# Altium integrated library Analog Devices Data Converters Analog-to-Digital Converters.IntLib: 2404 symbols (part 87 of 346)
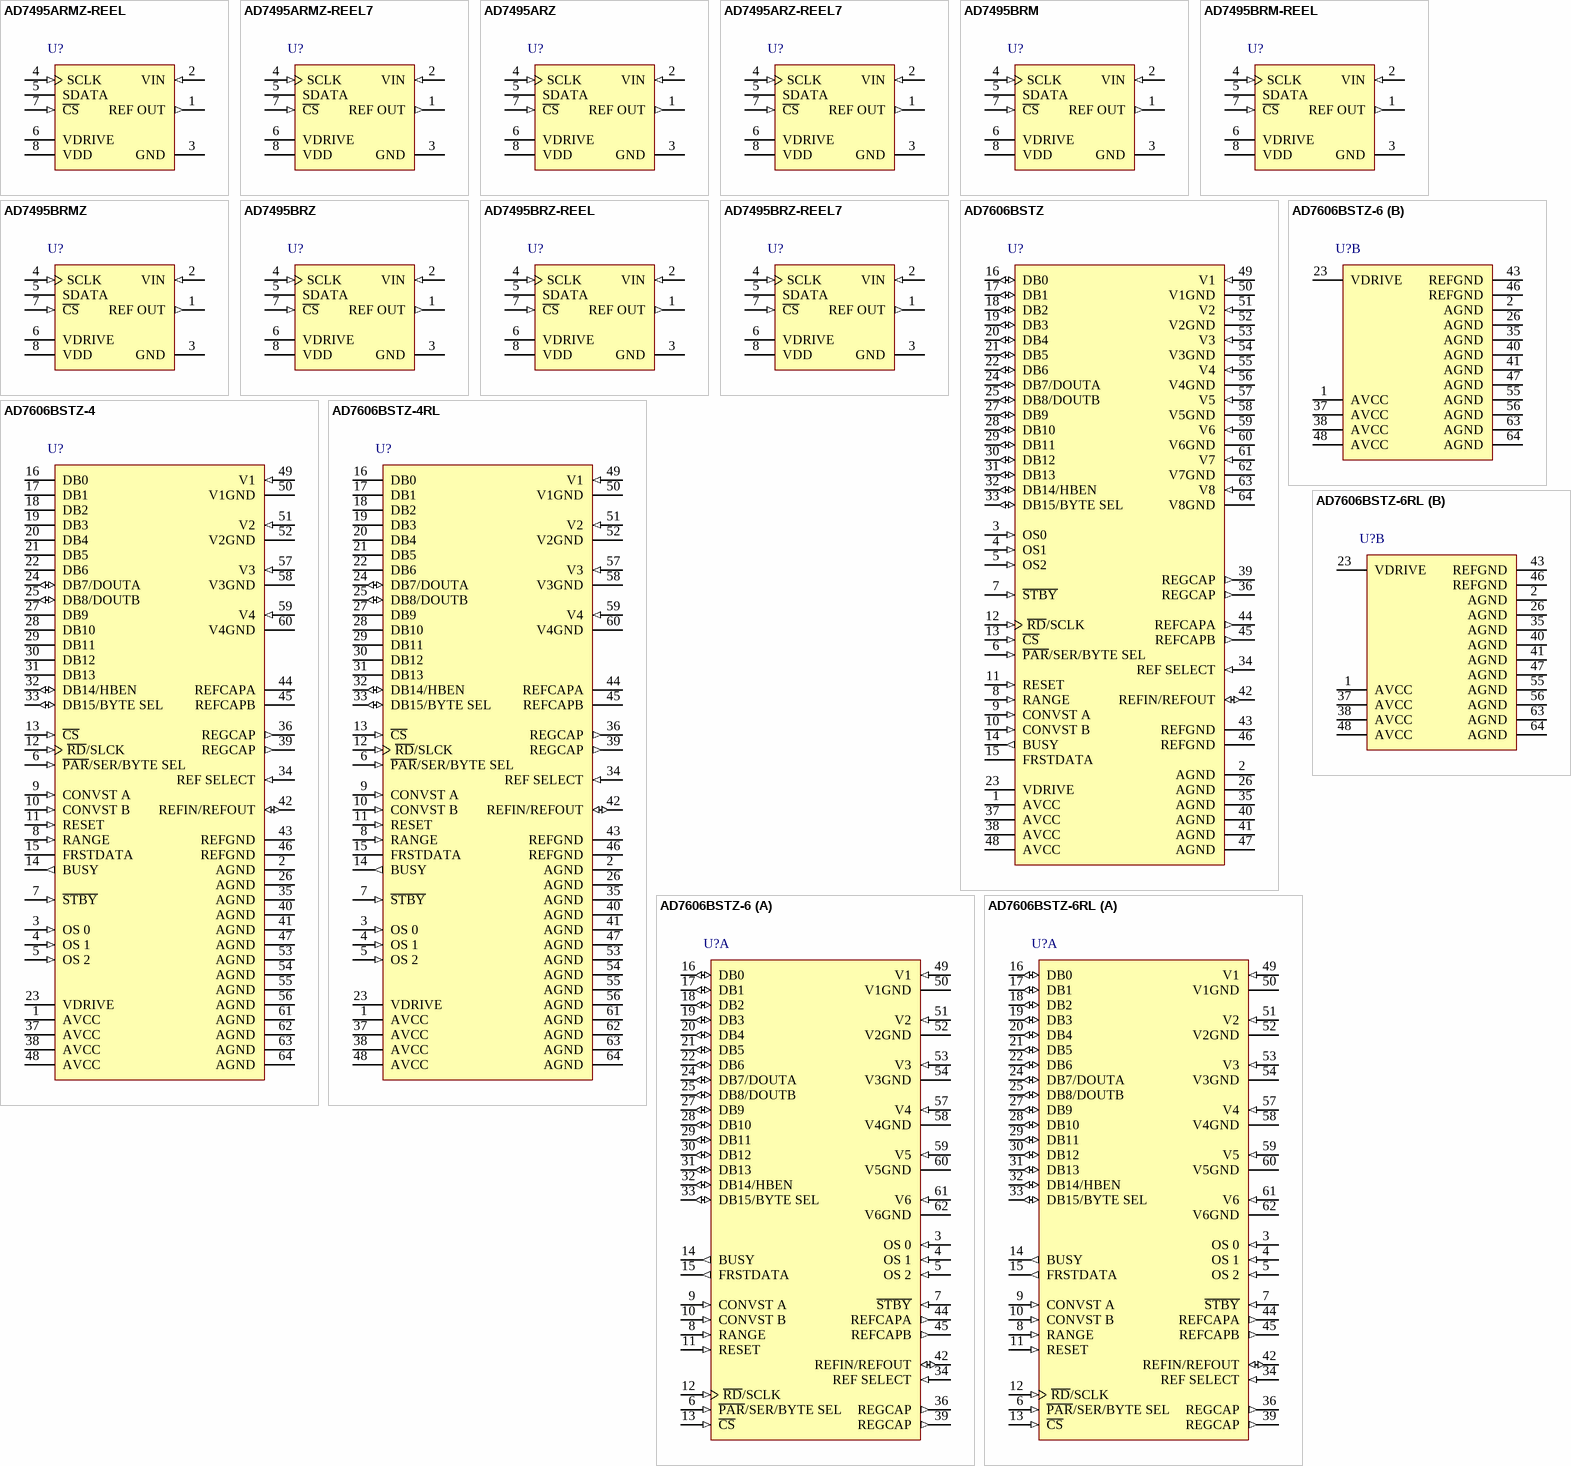
[diagram p301: symbols AD7495ARMZ-REEL to AD7606BSTZ-6RL]

## AD7606BSTZ-4RL
designator U?
Quad Data Acquisition System with 16-Bit, Bipolar Input, Simultaneous Sampling Analog-to-Digital Converter with Parallel, Serial and SPI Interface, 200KSPS, -40 to +85 degC, ST-64-2, Pb-Free, Reel; Generic Part Number: AD7606-4; Manufacturer: Analog Devices; PartNumber: AD7606BSTZ-4RL; Resolution (Bits): 16; Channels: 4; Throughput Rate (SPS): 200K; Interface: Par, Ser, SPI; DatasheetVersion: Rev.C; PackageVersion: 051706-A; PackageReference: ST-64-2; PackageDescription: 64-Lead Low Profile Quad Flat Package [LQFP]; Supplier 1: Digi-Key; Supplier Part Number 1: AD7606BSTZ-4RLTR-ND; Supplier 2: Digi-Key; Supplier Part Number 2: AD7606BSTZ-4RLCT-ND; Supplier 3: Digi-Key; Supplier Part Number 3: AD7606BSTZ-4RLDKR-ND; Supplier 4: Mouser; Supplier Part Number 4: 584-AD7606BSTZ-4R; RoHS: Y; Packing: Reel; Mounting Technology: Surface Mount; Code_JEDEC: MS-026-BCD; ComponentLink1Description: Manufacturer URL; ComponentLink1URL: http://www.analog.com/en/index.html; ComponentLink2Description: Datasheet; ComponentLink2URL: http://www.analog.com/static/imported-files/data_sheets/AD7606_7606-6_7606-4.pdf; ComponentLink3Description: Package Specification; ComponentLink3URL: http://www.analog.com/static/imported-files/packages/PKG_PDF/LQFP%28ST%29/ST_64_2.pdf; ComponentLink4Description: Product URL; ComponentLink4URL: http://www.analog.com/en/analog-to-digital-converters/ad-converters/ad7606-4/products/product.html
footprint ST-64-2_N (Thin QFP, 64-Leads, Body 10x10mm, Pitch 0.5mm, IPC Medium Density)
footprint ST-64-2_L (Thin QFP, 64-Leads, Body 10x10mm, Pitch 0.5mm, IPC High Density)
footprint ST-64-2_M (Thin QFP, 64-Leads, Body 10x10mm, Pitch 0.5mm, IPC Low Density)
pins: 1 AVCC (power) "Analog Supply Voltage, 4.75 V to 5.25 V. This supply voltage is applied to the internal front-end amplifiers and to the ADC core. These supply pins should be decoupled to AGND.", 2 AGND (power) "Analog Ground. These pins are the ground reference points for all analog circuitry on the AD7606. All analog input signals and external reference signals should be referred to these pins. All six of these AGND pins should (See Datasheet)", 3 OS 0 (in) "Oversampling Mode Pins. Logic inputs. These inputs are used to select the oversampling ratio. OS 2 is the MSB control bit, and OS 0 is the LSB control bit. See the Digital Filter section for more details about the (See Datasheet)", 4 OS 1 (in) "Oversampling Mode Pins. Logic inputs. These inputs are used to select the oversampling ratio. OS 2 is the MSB control bit, and OS 0 is the LSB control bit. See the Digital Filter section for more details about the (See Datasheet)", 5 OS 2 (in) "Oversampling Mode Pins. Logic inputs. These inputs are used to select the oversampling ratio. OS 2 is the MSB control bit, and OS 0 is the LSB control bit. See the Digital Filter section for more details about the (See Datasheet)", 6 ~{PAR}/SER/BYTE SEL (in) "Parallel/Serial/Byte Interface Selection Input. Logic input. If this pin is tied to a logic low, the parallel interface is selected. If this pin is tied to a logic high, the serial interface is selected. Parallel byte (See Datasheet)", 7 ~{STBY} (in) "Standby Mode Input. This pin is used to place the AD7606/AD7606-6/ AD7606-4 into one of two power-down modes: standby mode or shutdown mode. The power-down mode entered depends on the state of the RANGE pin, as shown in (See Datasheet)", 8 RANGE (in) "Analog Input Range Selection. Logic input. The polarity on this pin deter-mines the input range of the analog input channels. If this pin is tied to a logic high, the analog input range is +/-10 V for all channels. If this (See Datasheet)", 9 CONVST A (in) "Conversion Start Input A. Logic inputs. These logic inputs are used to initiate conversions on the analog input channels.For simultaneous sampling of all input channels, CONVST A and CONVST B can be shorted together, and a (See Datasheet)", 10 CONVST B (in) "Conversion Start Input B. Logic inputs. These logic inputs are used to initiate conversions on the analog input channels.For simultaneous sampling of all input channels, CONVST A and CONVST B can be shorted together, and a (See Datasheet)", 11 RESET (in) "Reset Input. When set to logic high, the rising edge of RESET resets the AD7606/AD7606-6/AD7606-4. The part should receive a RESET pulse after power-up. The RESET high pulse should typically be 50 ns wide. If a RESET pulse (See Datasheet)", 12 ~{RD}/SLCK (in) "Parallel Data Read Control Input When the Parallel Interface Is Selected (R\D\)/ Serial Clock Input When the Serial Interface Is Selected (SCLK). When both C\S\ and R\D\ are logic low in parallel mode, the output bus is (See Datasheet)", 13 ~{CS} (in) "Chip Select. This active low logic input frames the data transfer. When both C\S\ and R\D\ are logic low in parallel mode, the DB[15:0] output bus is enabled and the conversion result is output on the parallel data bus lines.(See Datasheet)", 14 BUSY (out) "Busy Output. This pin transitions to a logic high after both CONVST A and CONVST B rising edges and indicates that the conversion process has started. The BUSY output remains high until the conversion process for all (See Datasheet)", 15 FRSTDATA (hiz) "Digital Output. The FRSTDATA output signal indicates when the first channel, V1, is being read back on the parallel, byte, or serial interface. When the C\S\ input is high, the FRSTDATA output pin is in three-state. The (See Datasheet)", 16 DB0 (hiz) "Parallel Output Data Bits DB0. When P\A\R\/SER/BYTE SEL = 0, this pin acts as three-state parallel digital input/output pin. When C\S\ and R\D\ are low, this pin is used to output  DB0 of the conversion result. When (See Datasheet)", 17 DB1 (hiz) "Parallel Output Data Bits DB1. When P\A\R\/SER/BYTE SEL = 0, this pin acts as three-state parallel digital input/output pin. When C\S\ and R\D\ are low, this pin is used to output  DB1 of the conversion result. When (See Datasheet)", 18 DB2 (hiz) "Parallel Output Data Bits DB2. When P\A\R\/SER/BYTE SEL = 0, this pin acts as three-state parallel digital input/output pin. When C\S\ and R\D\ are low, this pin is used to output  DB2 of the conversion result. When (See Datasheet)", 19 DB3 (hiz) "Parallel Output Data Bits DB3. When P\A\R\/SER/BYTE SEL = 0, this pin acts as three-state parallel digital input/output pin. When C\S\ and R\D\ are low, this pin is used to output  DB3 of the conversion result. When (See Datasheet)", 20 DB4 (hiz) "Parallel Output Data Bits DB4. When P\A\R\/SER/BYTE SEL = 0, this pin acts as three-state parallel digital input/output pin. When C\S\ and R\D\ are low, this pin is used to output  DB4 of the conversion result. When (See Datasheet)", 21 DB5 (hiz) "Parallel Output Data Bits DB5. When P\A\R\/SER/BYTE SEL = 0, this pin acts as three-state parallel digital input/output pin. When C\S\ and R\D\ are low, this pin is used to output  DB5 of the conversion result. When (See Datasheet)", 22 DB6 (hiz) "Parallel Output Data Bits DB6. When P\A\R\/SER/BYTE SEL = 0, this pin acts as three-state parallel digital input/output pin. When C\S\ and R\D\ are low, this pin is used to output  DB6 of the conversion result. When (See Datasheet)", 23 VDRIVE (power) "Logic Power Supply Input. The voltage (2.3 V to 5.25 V) supplied at this pin determines the operating voltage of the interface. This pin is nominally at the same supply as the supply of the host interface (that is, DSP and (See Datasheet)", 24 DB7/DOUTA (io) "Parallel Output Data Bit 7 (DB7)/Serial Interface Data Output Pin (DOUTA). When P\A\R\/SER/BYTE SEL = 0, this pins acts as a three-state parallel digital input/output pin. When C\S\ and R\D\ are low, this pin is used to (See Datasheet)", 25 DB8/DOUTB (io) "Parallel Output Data Bit 8 (DB8)/Serial Interface Data Output Pin (DOUTB).When P\A\R\/SER/BYTE SEL = 0, this pin acts as a three-state parallel digital input/output pin. When C\S\ and R\D\ are low, this pin is used to output (See Datasheet)", 26 AGND (power) "Analog Ground. These pins are the ground reference points for all analog circuitry on the AD7606. All analog input signals and external reference signals should be referred to these pins. All six of these AGND pins should (See Datasheet)", 27 DB9 (hiz) "Parallel Output Data DB9. When P\A\R\/SER/BYTE SEL = 0, this pin acts as three-state parallel digital input/output pin. When C\S\ and R\D\ are low, this pin is used to output DB9 of the conversion result. When (See Datasheet)", 28 DB10 (hiz) "Parallel Output Data DB10. When P\A\R\/SER/BYTE SEL = 0, this pin acts as three-state parallel digital input/output pin. When C\S\ and R\D\ are low, this pin is used to output DB10 of the conversion result. When (See Datasheet)", 29 DB11 (hiz) "Parallel Output Data DB11. When P\A\R\/SER/BYTE SEL = 0, this pin acts as three-state parallel digital input/output pin. When C\S\ and R\D\ are low, this pin is used to output DB11 of the conversion result. When (See Datasheet)", 30 DB12 (hiz) "Parallel Output Data DB12. When P\A\R\/SER/BYTE SEL = 0, this pin acts as three-state parallel digital input/output pin. When C\S\ and R\D\ are low, this pin is used to output DB12 of the conversion result. When (See Datasheet)", 31 DB13 (hiz) "Parallel Output Data DB13. When P\A\R\/SER/BYTE SEL = 0, this pin acts as three-state parallel digital input/output pin. When C\S\ and R\D\ are low, this pin is used to output DB13 of the conversion result. When (See Datasheet)", 32 DB14/HBEN (io) "Parallel Output Data Bit 14 (DB14)/High Byte Enable (HBEN). When P\A\R\/ SER/BYTE SEL = 0, this pin acts as a three-state parallel digital output pin. When C\S\ and R\D\ are low, this pin is used to output DB14 of the (See Datasheet)", 33 DB15/BYTE SEL (io) "Parallel Output Data Bit 15 (DB15)/Parallel Byte Mode Select (BYTE SEL). When P\A\R\/SER/BYTE SEL = 0, this pin acts as a three-state parallel digital output pin. When C\S\ and R\D\ are low, this pin is used to output DB15 (See Datasheet)", 34 REF SELECT (in) "Internal/External Reference Selection Input. Logic input. If this pin is set to logic high, the internal reference is selected and enabled. If this pin is set to logic low, the internal reference is disabled and an external (See Datasheet)", 35 AGND (power) "Analog Ground. These pins are the ground reference points for all analog circuitry on the AD7606. All analog input signals and external reference signals should be referred to these pins. All six of these AGND pins should (See Datasheet)", 36 REGCAP (out) "Decoupling Capacitor Pin for Voltage Output from Internal Regulator.These output pins should be decoupled separately to AGND using a 1 uF capacitor. The voltage on these pins is in the range of 2.5 V to 2.7 V.", 37 AVCC (power) "Analog Supply Voltage, 4.75 V to 5.25 V. This supply voltage is applied to the internal front-end amplifiers and to the ADC core. These supply pins should be decoupled to AGND.", 38 AVCC (power) "Analog Supply Voltage, 4.75 V to 5.25 V. This supply voltage is applied to the internal front-end amplifiers and to the ADC core. These supply pins should be decoupled to AGND.", 39 REGCAP (out) "Decoupling Capacitor Pin for Voltage Output from internal Regulator. These output pins should be decoupled separately to AGND using a 1 uF capacitor. The voltage on these pins is in the range of 2.5V to 2.7 V.", 40 AGND (power) "Analog Ground. These pins are the ground reference points for all analog circuitry on the AD7606. All analog input signals and external reference signals should be referred to these pins. All six of these AGND pins should (See Datasheet)", 41 AGND (power) "Analog Ground. These pins are the ground reference points for all analog circuitry on the AD7606. All analog input signals and external reference signals should be referred to these pins. All six of these AGND pins should (See Datasheet)", 42 REFIN/REFOUT (io) "Reference Input (REFIN)/Reference Output (REFOUT). The on-chip reference of 2.5 V is available on this pin for external use if the REF SELECT pin is set to logic high. Alternatively, the internal reference can be disabled by (See Datasheet)", 43 REFGND (power) "Reference Ground Pins. These pins should be connected to AGND.", 44 REFCAPA "Reference Buffer Output Force/Sense Pins. These pins must be connected together and decoupled to AGND using a low ESR, 10 uF ceramic capacitor. The voltage on these pins is typically 4.5 V.", 45 REFCAPB "Reference Buffer Output Force/Sense Pins. These pins must be connected together and decoupled to AGND using a low ESR, 10 uF ceramic capacitor. The voltage on these pins is typically 4.5 V.", 46 REFGND (power) "Reference Ground Pins. These pins should be connected to AGND.", 47 AGND (power) "Analog Ground. These pins are the ground reference points for all analog circuitry on the AD7606. All analog input signals and external reference signals should be referred to these pins. All six of these AGND pins should (See Datasheet)", 48 AVCC (power) "Analog Supply Voltage, 4.75 V to 5.25 V. This supply voltage is applied to the internal front-end amplifiers and to the ADC core. These supply pins should be decoupled to AGND.", 49 V1 (in) "Analog Input. This pin is a single-ended analog input. The analog input range of this channel is determined by the RANGE pin.", 50 V1GND (power) "Analog Input Ground Pins. These pins correspond to Analog Input Pin V1 and Analog Input Pin V2. All analog input AGND pins should connect to the AGND plane of a system.", 51 V2 (in) "Analog Input. This pin is a single-ended analog input. The analog input range of this channel is determined by the RANGE pin.", 52 V2GND (power) "Analog Input Ground Pins. These pins correspond to Analog Input Pin V1 and Analog Input Pin V2. All analog input AGND pins should connect to the AGND plane of a system.", 53 AGND (power) "Analog Input 3. For the AD7606-4, this is an AGND pin.", 54 AGND (power) "Analog Input Ground Pin. For the AD7606-4, this is an AGND pin.", 55 AGND (power) "Analog Input 4. For  the AD7606-4, this is an AGND pin.", 56 AGND (power) "Analog Input Ground Pin. For the  AD7606-4, this is an AGND pin.", 57 V3 (in) "Analog Inputs. These pins are single-ended analog inputs. The analog input range of these channels is determined by the RANGE pin.", 58 V3GND (power) "Analog Input Ground Pins. All analog input AGND pins should connect to the AGND plane of a system.", 59 V4 (in) "Analog Inputs. These pins are single-ended analog inputs.", 60 V4GND (power) "Analog Input Ground Pins. All analog input AGND pins should connect to the AGND plane of a system.", 61 AGND (power) "Analog Input Pins. For the AD7606-4, this is an AGND pin.", 62 AGND (power) "Analog Input Ground Pins. For the AD7606-4, this is an AGND pin.", 63 AGND (power) "Analog Input Pin. For the AD7606-4 , this is an AGND pin.", 64 AGND (power) "Analog Input Ground Pin. For the AD7606-4 , this is an AGND pin."